# Altium schematic symbol library Schlib1.SchLib: 5 symbols
Pins are listed as number, name and electrical type; pins without a type are passive.

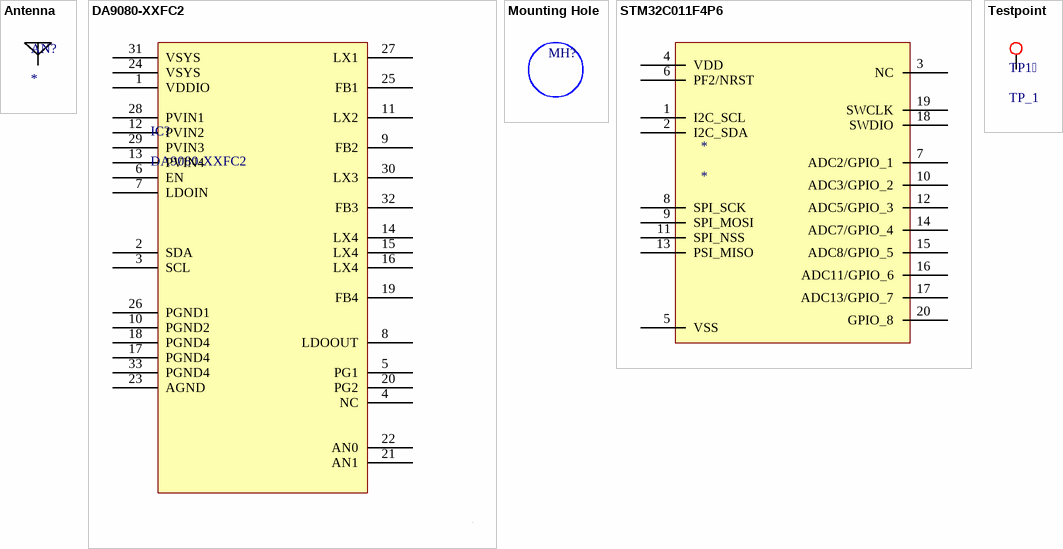
[diagram p0: symbols Antenna to Testpoint]

## Antenna
designator AN?
footprint Antenna
pins: 0

## DA9080-XXFC2
designator IC?
footprint QFN50P500X500X60_HS-33N (QFN, 32-Leads, Body 5.00x5.00mm, Pitch 0.50mm, Thermal Pad 4.00x2.20mm, IPC Medium Density)
pins: 1 VDDIO, 2 SDA, 3 SCL, 4 NC, 5 PG1, 6 EN, 7 LDOIN, 8 LDOOUT, 9 FB2, 10 PGND2, 11 LX2, 12 PVIN2, 13 PVIN4, 14 LX4, 15 LX4, 16 LX4, 17 PGND4, 18 PGND4, 19 FB4, 20 PG2, 21 AN1, 22 AN0, 23 AGND, 24 VSYS, 25 FB1, 26 PGND1, 27 LX1, 28 PVIN1, 29 PVIN3, 30 LX3, 31 VSYS, 32 FB3, 33 PGND4

## Mounting Hole
designator MH?, comment MH?  (value not drawn)
footprint Mounting Hole

## STM32C011F4P6
designator *
footprint TSSOP20
pins: 1 I2C_SCL, 2 I2C_SDA, 3 NC, 4 VDD, 5 VSS, 6 PF2/NRST, 7 ADC2/GPIO_1, 8 SPI_SCK, 9 SPI_MOSI, 10 ADC3/GPIO_2, 11 SPI_NSS, 12 ADC5/GPIO_3, 13 PSI_MISO, 14 ADC7/GPIO_4, 15 ADC8/GPIO_5, 16 ADC11/GPIO_6, 17 ADC13/GPIO_7, 18 SWDIO, 19 SWCLK, 20 GPIO_8

## Testpoint
designator TP1, comment TP_1
footprint Testpoint
pins: 0